# Altium schematic symbol library ecorunnerConnectors16_17.SchLib: 4 symbols
Pins are listed as number, name and electrical type; pins without a type are passive.

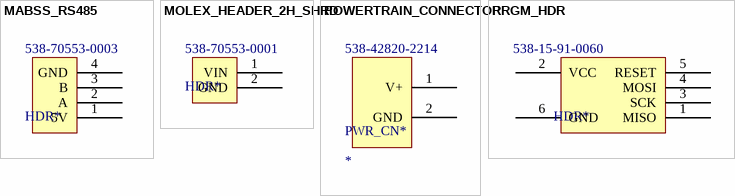
[diagram p0: symbols MABSS_RS485 to PRGM_HDR]

## MABSS_RS485
designator HDR*, comment Supplier Part Number 1: 538-70553-0003  (hidden comment: RS-485 interface)
Part Number: 70553-0003. MABSS connector; Supplier 1: Mouser
footprint MOLEX_HEADER_4H_SHRD
pins: 1 5V, 2 A, 3 B, 4 GND

## MOLEX_HEADER_2H_SHRD
designator HDR*  Supplier Part Number 1: 538-70553-0001  (hidden comment: MOLEX_HEADER_2H_SHRD)
Part Number: 70553-0001. 2-wire signal inputs; Supplier 1: Mouser
footprint MOLEX_HEADER_2H_SHRD
pins: 1 VIN, 2 GND

## POWERTRAIN_CONNECTOR
designator PWR_CN*  Supplier Part Number 1: 538-42820-2214
Connector for powertrain elements.; Supplier 1: Mouser
footprint MOLEX_PWR_HDR_2 (Part Number: 42820-2214    10.00mm Pitch Mini-Fit Sr.™ Header, Single Row, Right Angle, 1.57mm PCB Thickness, Silver (Ag) Plating, 2 Circuits)
pins: 1 V+, 2 GND

## PRGM_HDR
designator HDR*, comment Supplier Part Number 1: 538-15-91-0060  (hidden comment: Programming header)
Supplier 1: Mouser
footprint MOLEX_HEADER_6_SMD (Part Number: 15-91-0060)
pins: 1 MISO, 2 VCC, 3 SCK, 4 MOSI, 5 RESET, 6 GND